# Altium schematic symbol library Varistor.SchLib: 1 symbol
Pins are listed as number, name and electrical type; pins without a type are passive.

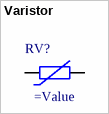
[diagram p0: symbol Varistor]

## Varistor
designator RV?
pins: 1, 2